# EAGLE library part P80C31SBBB,557 (library NXP_By_element14_Batch_1)
80C51 8-bit microcontroller
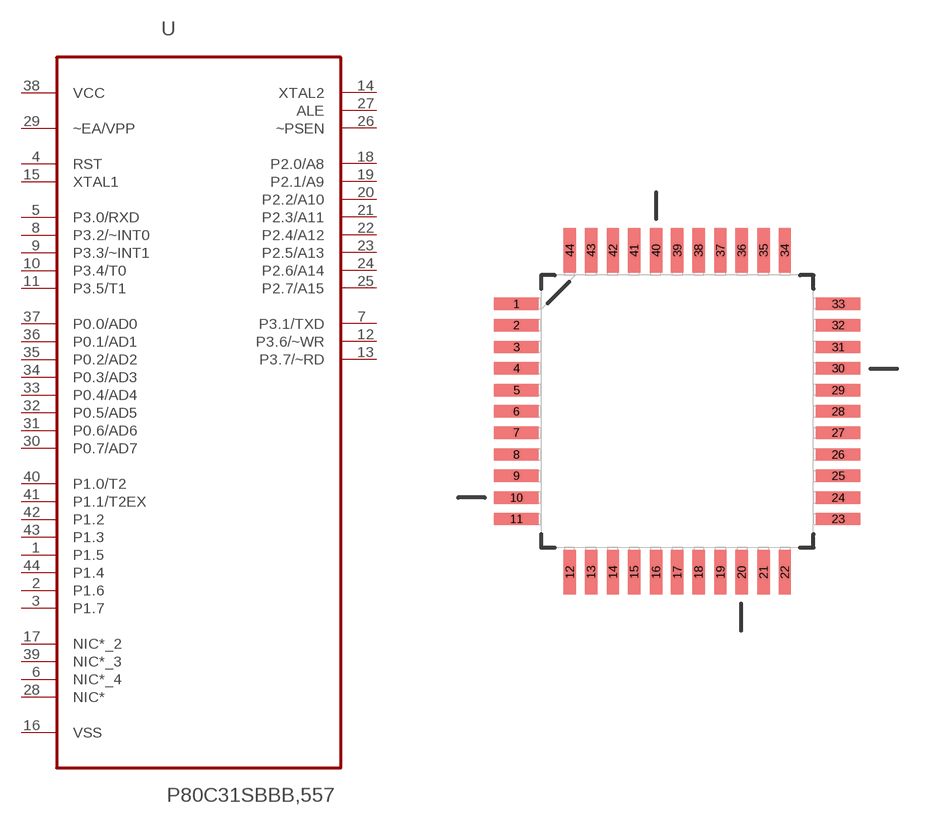
[diagram p378: symbol with the pads of QFP80P1260X1260X210-44N; footprint QFP80P1260X1260X210-44N]

Designator prefix U

## P80C31SBBB,557 (MPN: P80C31SBBB,557; OC_FARNELL: -; OC_NEWARK: 70R8432; PACKAGE: QFP-44; SUPPLIER: NXP)  [QFP80P1260X1260X210-44N]
1  P1.5
2  P1.6
3  P1.7
4  RST  in
5  P3.0/RXD  in
6  NIC*_4  nc
7  P3.1/TXD  out
8  P3.2/~INT0  in
9  P3.3/~INT1  in
10  P3.4/T0  in
11  P3.5/T1  in
12  P3.6/~WR  out
13  P3.7/~RD  out
14  XTAL2  out
15  XTAL1  in
16  VSS  pas
17  NIC*_2  nc
18  P2.0/A8
19  P2.1/A9
20  P2.2/A10
21  P2.3/A11
22  P2.4/A12
23  P2.5/A13
24  P2.6/A14
25  P2.7/A15
26  ~PSEN  out
27  ALE  out
28  NIC*  nc
29  ~EA/VPP
30  P0.7/AD7
31  P0.6/AD6
32  P0.5/AD5
33  P0.4/AD4
34  P0.3/AD3
35  P0.2/AD2
36  P0.1/AD1
37  P0.0/AD0
38  VCC  pwr
39  NIC*_3  nc
40  P1.0/T2
41  P1.1/T2EX
42  P1.2
43  P1.3
44  P1.4

## Footprint QFP80P1260X1260X210-44N (pad centres in mm)
smd 1.651 x 0.457: 1 -5.969,3.988; 2 -5.969,3.2; 3 -5.969,2.388; 4 -5.969,1.6; 5 -5.969,0.787; 6 -5.969,0; 7 -5.969,-0.787; 8 -5.969,-1.6; 9 -5.969,-2.388; 10 -5.969,-3.2; 11 -5.969,-3.988; 23 5.969,-3.988; 24 5.969,-3.2; 25 5.969,-2.388; 26 5.969,-1.6; 27 5.969,-0.787; 28 5.969,0; 29 5.969,0.787; 30 5.969,1.6; 31 5.969,2.388; 32 5.969,3.2; 33 5.969,3.988
smd 0.457 x 1.651: 12 -3.988,-5.969; 13 -3.2,-5.969; 14 -2.388,-5.969; 15 -1.6,-5.969; 16 -0.787,-5.969; 17 0,-5.969; 18 0.787,-5.969; 19 1.6,-5.969; 20 2.388,-5.969; 21 3.2,-5.969; 22 3.988,-5.969; 34 3.988,5.969; 35 3.2,5.969; 36 2.388,5.969; 37 1.6,5.969; 38 0.787,5.969; 39 0,5.969; 40 -0.787,5.969; 41 -1.6,5.969; 42 -2.388,5.969; 43 -3.2,5.969; 44 -3.988,5.969